# Altium schematic symbol library JST.SchLib: 2 symbols
Pins are listed as number, name and electrical type; pins without a type are passive.

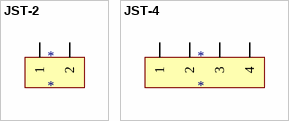
[diagram p0: symbols JST-2 to JST-4]

## JST-2
designator *
JST-2
footprint JST-2 (B2B-PH-K-S(LF)(SN))
footprint JST-2 SMT (BM02B-GHS-TBT)
pins: 1, 2

## JST-4
designator *
JST-4
footprint JST-4
footprint JST-4 SMT (BM04B-GHS-TBT)
pins: 1, 2, 3, 4